# EAGLE library part EXT-DNC (library pierre_vv)
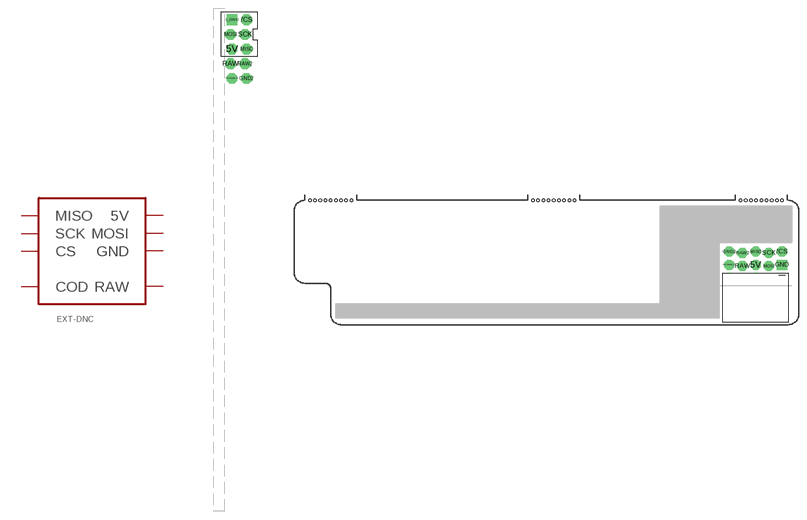
[diagram p6: symbol with the pads of EXTPINDNC; footprints EXTPINDNC, 2X5_RIGHTANGLEDNC]

Designator prefix -

## EXT-DNC  [EXTPINDNC]
1_GND  GND
5V  5V
/CS  CS
GND2  GND
MISO  MISO
MOSI  MOSI
RAW  RAW
RAW2  RAW
RETOURANALOG  COD
SCK  SCK

## EXT-DNCCARTE_EXTENSION  [2X5_RIGHTANGLEDNC]
5V  5V
/CS  CS
GND  GND
GND2  GND
MISO  MISO
MOSI  MOSI
RAW  RAW
RAW2  RAW
RETOURANALOG  COD
SCK  SCK

## Footprint EXTPINDNC (pad centres in mm)
drill 0.9 pad 1.88 square: 1_GND -1.143,5.08
drill 0.9 pad 1.88 octagon: 5V -1.143,0; /CS 1.397,5.08; GND2 1.397,-5.08; MISO 1.397,0; MOSI -1.397,2.54; RAW -1.397,-2.54; RAW2 1.143,-2.54; RETOURANALOG -1.143,-5.08; SCK 1.143,2.54

## Footprint 2X5_RIGHTANGLEDNC (pad centres in mm)
drill 1.016 pad 1.93 octagon: 5V 88.9,11.557; /CS 93.98,14.097; GND2 83.82,14.097; MISO 88.9,14.097; MOSI 91.44,11.303; RAW 86.36,11.303; RAW2 86.36,13.843; RETOURANALOG 83.82,11.557; SCK 91.44,13.843
drill 1.016 pad 1.93 square: GND 93.98,11.557
hole 0.5 at 3,24
hole 0.5 at 4,24
hole 0.5 at 5,24
hole 0.5 at 6,24
hole 0.5 at 7,24
hole 0.5 at 8,24
hole 0.5 at 9,24
hole 0.5 at 10,24
hole 0.5 at 11,24
hole 0.5 at 46,24
hole 0.5 at 47,24
hole 0.5 at 49,24
hole 0.5 at 48,24
hole 0.5 at 50,24
hole 0.5 at 51,24
hole 0.5 at 52,24
hole 0.5 at 53,24
hole 0.5 at 54,24
hole 0.5 at 86,24
hole 0.5 at 87,24
hole 0.5 at 88,24
hole 0.5 at 90,24
hole 0.5 at 89,24
hole 0.5 at 91,24
hole 0.5 at 92,24
hole 0.5 at 93,24
hole 0.5 at 94,24